# EAGLE library part TRANSISTOR-SMALL-SIGNAL_BC847BS (library 258Verbos)
NPN general purpose double transistor Source: http://www.farnell.com/datasheets/2466.pdf
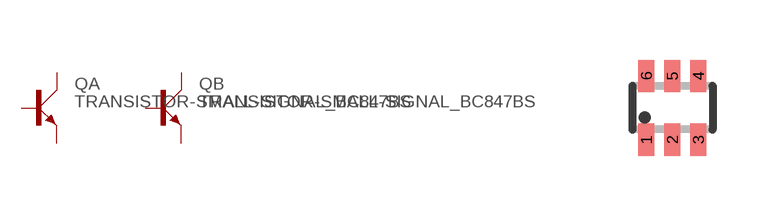
[diagram p6: symbol with the pads of TRANSISTOR-SMALL-SIGNAL_SOT363_PHILIPS; footprint TRANSISTOR-SMALL-SIGNAL_SOT363_PHILIPS]

Designator prefix Q; gates A=TRANSISTOR-SMALL-SIGNAL_NPN B=TRANSISTOR-SMALL-SIGNAL_NPN

## TRANSISTOR-SMALL-SIGNAL_BC847BS  [TRANSISTOR-SMALL-SIGNAL_SOT363_PHILIPS]
1  A:E  pas
2  A:B  pas
3  B:C  pas
4  B:E  pas
5  B:B  pas
6  A:C  pas

## Footprint TRANSISTOR-SMALL-SIGNAL_SOT363_PHILIPS (pad centres in mm)
Small Outline Transistor; 6 leads Philips Semiconductors, SOT363.pdf
smd 0.4 x 0.8: 1 -0.65,-0.8; 2 0,-0.8; 3 0.65,-0.8; 4 0.65,0.8; 5 0,0.8; 6 -0.65,0.8